# EAGLE library part 9.5MM-12PIN-TERMINAL (library 9-5mmBarrierTerminal)
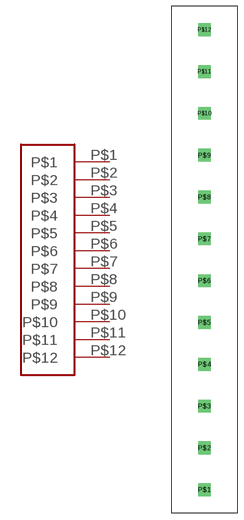
[diagram p0: symbol with the pads of 9.5MM-12PIN-TERMINAL; footprint 9.5MM-12PIN-TERMINAL]

Designator prefix -

## 9.5MM-12PIN-TERMINAL  [9.5MM-12PIN-TERMINAL]
P$1  P$1  pwr
P$2  P$2  pwr
P$3  P$3  pwr
P$4  P$4  pwr
P$5  P$5  pwr
P$6  P$6  pwr
P$7  P$7  pwr
P$8  P$8  pwr
P$9  P$9  pwr
P$10  P$10  pwr
P$11  P$11  pwr
P$12  P$12  pwr

## Footprint 9.5MM-12PIN-TERMINAL (pad centres in mm)
drill 2 square: P$1 0,0; P$2 0,9.8; P$3 0,19.6; P$4 0,29.4; P$5 0,39.2; P$6 0,49; P$7 0,58.8; P$8 0,68.6; P$9 0,78.4; P$10 0,88.2; P$11 0,98; P$12 0,107.8